# Altium schematic symbol library FullLib.SCHLIB: 38 symbols
Pins are listed as number, name and electrical type; pins without a type are passive.

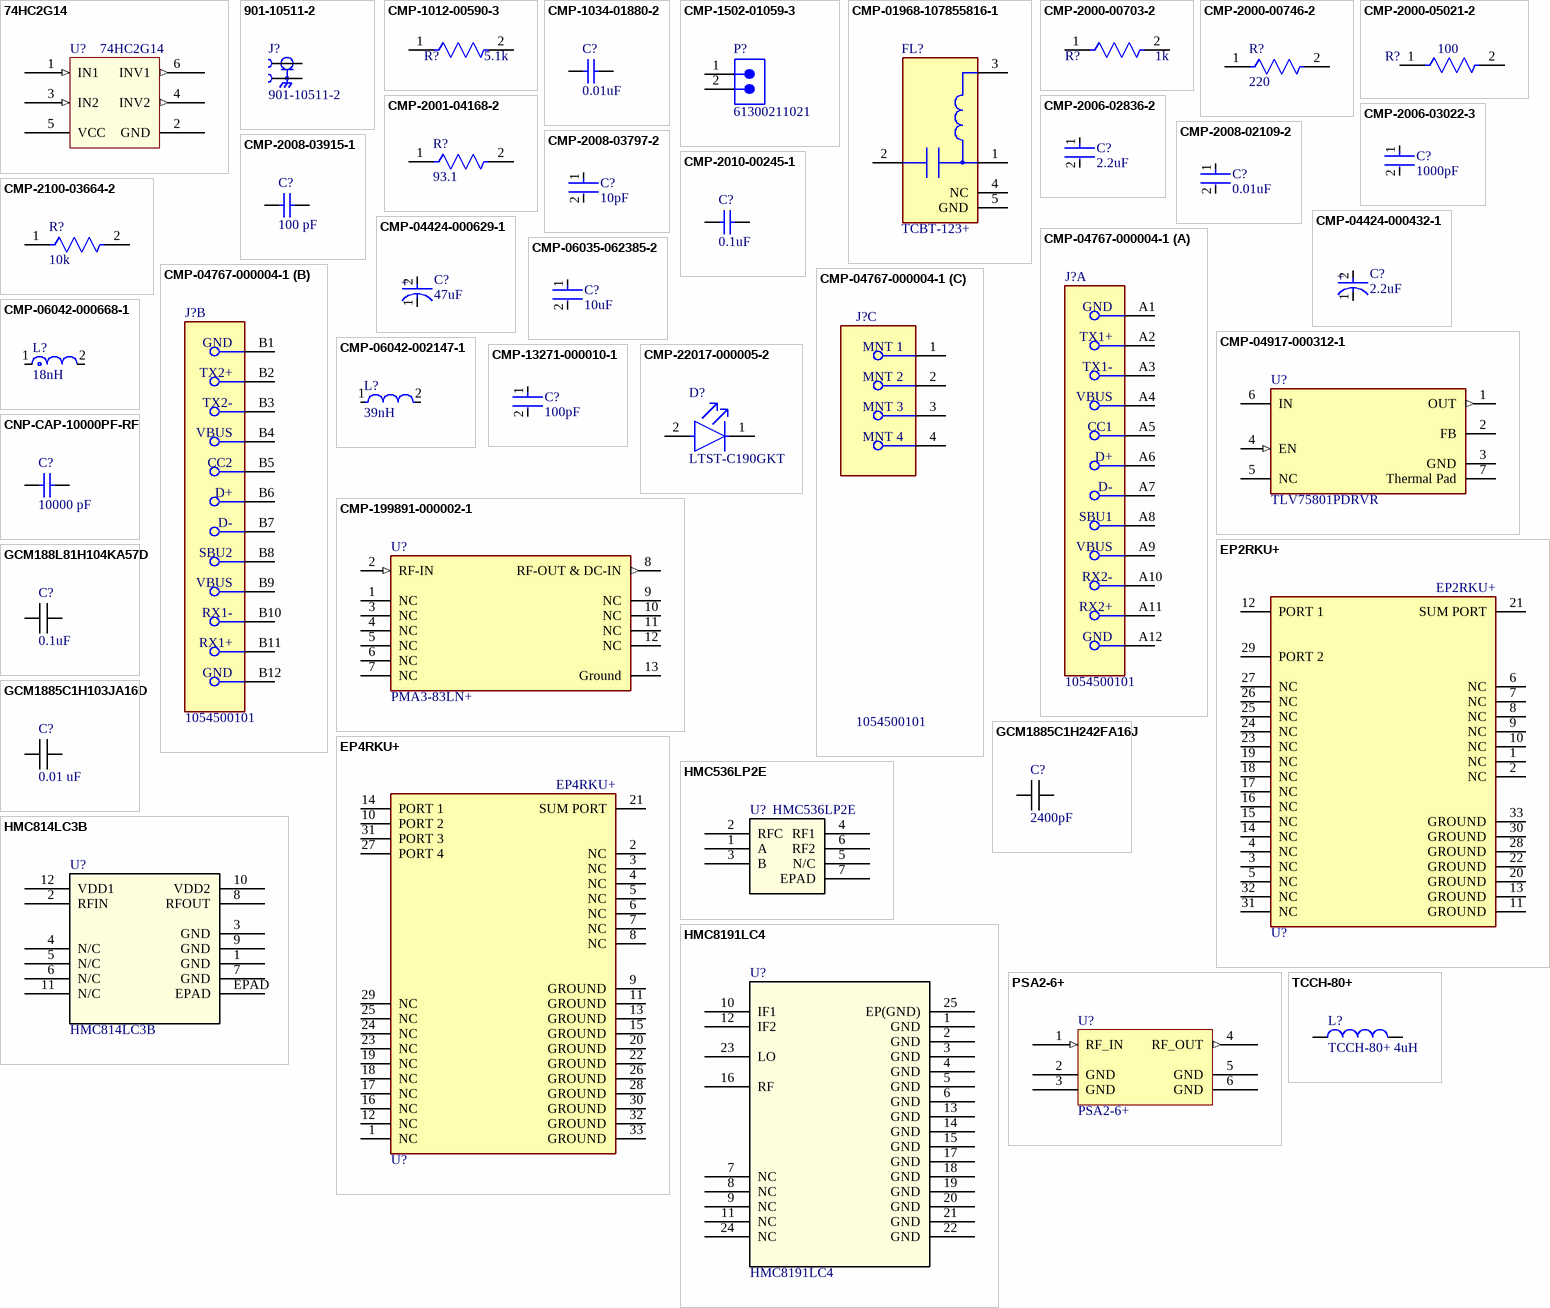
[diagram p0: symbols 74HC2G14 to TCCH-80+]

## 74HC2G14
designator U?
Inverters Dual inverting Schmitt trigger, 2CH; Part Number: 74HC2G14GV; Manufacturer: Nexperia; Supplier 1: Digikey; Supplier Part Number 1: 1727-74HC2G14GV-Q100HCT-ND
footprint TSOP-6
pins: 1 IN1 (in), 2 GND, 3 IN2 (in), 4 INV2 (out), 5 VCC (power), 6 INV1 (out)

## 901-10511-2
designator J?
SMA Straight End Launch Jack, .010 Pin, .068  PCB, Edge-Mount, High Frequency | Amphenol RF 901-10511-2; Manufacturer: Amphenol RF; Part Number: 901-10511-2; Supplier 1: Avnet; Supplier Part Number 1: 99Y7069
footprint AMPHENOL_901-10511-2
pins: 1, G1 2, G2 2

## CMP-1012-00590-3
designator R?, comment 5.1k
RES Thick Film, 5.1kΩ, 1%, 0.1W, 100ppm/°C, 0603; Part Number: ERJ-3EKF5101V; Manufacturer: Panasonic; Power Rating: 100mW; Voltage Rating (DC): 75V; Resistance: 5.1kR; Width: 0.85mm; Depth: 0.85mm; Military Standard: Not; Package Quantity: 5000; Case Code (Metric): 1608; Length: 1.55mm; Weight: 7.1E-05oz; Packaging: Tape and Reel; Temperature Coefficient: 100ppm/°C; Case Code (Imperial): 0603; Lead Free: Lead Free; Radiation Hardening: No; Contact Plating: Tin; Composition: Thick Film; Max Operating Temperature: 155°C; Termination: SMD/SMT; Case/Package: 0603; Min Operating Temperature: -55°C; Tolerance: 1%; Voltage Rating: 75V; Mount: Surface Mount; Height: 0.45mm; Supplier 1: Mouser; Supplier Part Number 1: 667-ERJ-3EKF5101V
footprint FP-CRCW0603-e3-IPC_C
footprint FP-CRCW0603-e3-MFG
footprint FP-CRCW0603-e3-IPC_A
footprint FP-CRCW0603-e3-IPC_B
pins: 1, 2

## CMP-1034-01880-2
designator C?, comment 0.01uF
10000 pF ±10% 25V Ceramic Capacitor X7R 0402 (1005 Metric); Manufacturer: Murata; Part Number: GRM155R71E103KA01D; Supplier 1: Mouser; Supplier Part Number 1: 81-GRM36X103K25; Supplier 2: Digikey; Supplier Part Number 2: 490-1312-1-ND
footprint CAPC1005X55X25LL05T10 (Chip Capacitor, 2-Leads, Body 1.00x0.50mm, IPC High Density)
footprint CAPC1005X55X25NL05T10 (Chip Capacitor, 2-Leads, Body 1.00x0.50mm, IPC Medium Density)
footprint CAPC1005X55X25ML05T10 (Chip Capacitor, 2-Leads, Body 1.00x0.50mm, IPC Low Density)
pins: 1, 2
1 alternate drawing of the same symbol

## CMP-1502-01059-3
designator P?, comment 61300211021
CONN HEADER R/A 2POS 2.54MM; NexarPartId: 32855519; Manufacturer: Wurth; Gender: Male; Contact Resistance: 20mΩ; Operating Supply Voltage: 250V; Connector Type: Male Pin; Current Rating: 3A; Number of Contacts: 2; Termination: Solder; Number of Pins: 2; Number of Rows: 1; Contact Plating: Gold; Contact Material: Copper; REACH SVHC: Unknown; Mount: Through Hole; RoHS: Compliant; Color: Black; Packaging: Bulk; Pitch: 2.54mm; Contact Mating Length: 5.9944mm; Number of Positions: 2; Lead Pitch: 2.54mm; Part Number: 61300211021; Supplier 1: Digikey; Supplier Part Number 1: 732-5335-ND
footprint 61300211021 (THT Angled Pin Header WR-PHD, Pitch 2.54 mm, Single Row, 2 pins)
pins: 1, 2

## CMP-01968-107855816-1
designator FL?, comment TCBT-123+
TCBT-123+ OEMs, CMs ONLY (NO BROKERS), / BIAS TEE SMT, 10 MHZ - 12 GHZ, 5; Manufacturer: Mini-Circuits; Min Operating Temperature: -40°C; Height: 3.81mm; Max Operating Temperature: 85°C; Part Number: TCBT-123+
footprint FP-GU1414-MFG (OEMs, CMs ONLY (NO BROKERS))
pins: 1 RF&DC, 2 RF, 3 DC, 4 NC, 5 GND (power)

## CMP-2000-00703-2
designator R?, comment 1k
RES SMD 1K OHM 5% 1/10W 0603; Manufacturer: Panasonic; Manufacturer Part Number: ERJ-3GEYJ102V; Resistance: 1000Ω; Voltage: 75 V; Power Rating: 0.1W; Temperature Coefficient: 200ppm/°C; Voltage Rating: 75V; Value: 1000Ω; Automotive Grade: Grade 0; Category: Res; Ipc Land Pattern Name: RESC16080X45; Mounting Type: surface mount; Automotive: Yes; Temperature: -55°C to +155°C; Lead Free: Yes; Footprint Url: https://industrial.panasonic.com/cdbs/www-data/pdf/RDA0000/DMA0000COL17.pdf; Tolerance: 5%; Device Class L1: Passive Components; Height: 0.55mm; Temperature Range Low: -55°C; RoHS: TRUE; Package: ERJ3G; Temperature Range High: +155°C; Digikey Description: RES SMD 1K OHM 5% 1/10W 0603; Series: ERJ; Device Class L2: Resistors; Device Class L3: Chip SMD Resistors; Mouser Description: Res Thick Film 0603 1K Ohm 5% 1/10W ±200ppm/°C Molded SMD Punched Carrier T/R; Composition: Thick Film; Part Number: ERJ-3GEYJ102V; Supplier 1: Future Electronics; Supplier Part Number 1: 6028511
footprint FP-ERJ3G-MFG
footprint FP-ERJ3G-IPC_C
footprint FP-ERJ3G-IPC_B
footprint FP-ERJ3G-IPC_A
pins: 1, 2

## CMP-2000-00746-2
designator R?, comment 220
RES SMD 220 OHM 5% 1/10W 0603; Manufacturer: Panasonic; Part Number: ERJ-3GEYJ221V; Max Power Dissipation: 100mW; Voltage Rating (DC): 50V; Temperature Coefficient: 200ppm/°C; Voltage Rating: 75V; Resistance: 220R; Height: 0.45mm; Case Code (Metric): 1608; Mount: Surface Mount; Military Standard: Not; Contact Plating: Tin; Radiation Hardening: No; Technology: THICK FILM; Case Code (Imperial): 0603; Features: Automotive AEC-Q200; Tolerance: 5%; Lead Free: Lead Free; Width: 0.031inch; Weight: 7.1E-05oz; Max Operating Temperature: 155°C; Case/Package: 0603; Series: ERJ; Package Quantity: 1; Number of Terminations: 2; Construction: Rectangular; Packaging: Tape and Reel; REACH SVHC: No SVHC; Min Operating Temperature: -55°C; Resistor Type: Thick Film; Length: 1.6mm; Power Rating: 100mW; Depth: 0.8mm; Resistance Tolerance: 5%; Termination: SMD/SMT; RoHS Compliant: Yes; Supplier 1: Future Electronics; Supplier Part Number 1: 4042422
footprint FP-ERJ3G-MFG
footprint FP-ERJ3G-IPC_B
footprint FP-ERJ3G-IPC_C
footprint FP-ERJ3G-IPC_A
pins: 1, 2

## CMP-2000-05021-2
designator R?, comment 100
RES SMD 100 OHM 5% 1/10W 0603; Manufacturer: Panasonic; Part Number: ERJ-3GEYJ101V; Temperature Coefficient: 100ppm/°C; Voltage Rating (DC): 50V; Power Rating: 100mW; Resistance: 100R; Features: Moisture Resistant; Width: 0.8mm; RoHS Compliant: Yes; Series: RC; Case Code (Metric): 1608; Packaging: Tape and Reel; Construction: Rectangular; Contact Plating: Tin; Resistor Type: Thick Film; Case/Package: 0603; Military Standard: Not; Case Code (Imperial): 0603; Number of Pins: 2; Length: 1.6mm; Size Code: 0603; Voltage Rating: 50V; Min Operating Temperature: -55°C; Max Power Dissipation: 100mW; Tolerance: 5%; Lead Free: Lead Free; Termination: SMD/SMT; Resistance Tolerance: 5%; Depth: 0.8mm; Max Operating Temperature: 155°C; Number of Terminations: 2; Radiation Hardening: No; Supplier 1: Mouser; Supplier Part Number 1: 667-ERJ-3GEYJ101V
footprint FP-RC0603-0_55-IPC_A
footprint FP-RC0603-0_55-IPC_B
footprint FP-RC0603-0_55-IPC_C
footprint FP-RC0603-0_55-MFG
pins: 1, 2

## CMP-2001-04168-2
designator R?, comment 93.1
RES Thick Film, 93.1Ω, 1%, 0.125W, 100ppm/°C, 0805; Part Number: ERJ-6ENF93R1V; Manufacturer: Panasonic; Resistance: 93.1R; Voltage Rating: 150V; Power Rating: 125mW; Tolerance: 1%; Features: Automotive AEC-Q200; Number of Terminations: 2; Case Code (Metric): 2012; Mount: Surface Mount; Case Code (Imperial): 0805; Temperature Coefficient: 100ppm/°C; Composition: Thick Film; Depth: 1.25mm; Case/Package: 0805; Width: 1.25mm; Voltage Rating (DC): 150V; Height: 0.02inch; Radiation Hardening: No; Contact Plating: Tin; Min Operating Temperature: -55°C; Max Power Dissipation: 125mW; Supplier 1: Digikey; Supplier Part Number 1: P93.1CCT-ND
footprint FP-CRCW0805-e3-MFG
footprint FP-CRCW0805-e3-IPC_C
footprint FP-CRCW0805-e3-IPC_A
footprint FP-CRCW0805-e3-IPC_B
pins: 1, 2

## CMP-2006-02836-2
designator C?, comment 2.2uF
Chip Multilayer Ceramic Capacitors for General Purpose, 0603, 2.2uF, X7R, 15%, 10%, 10V; Manufacturer: Murata; Part Number: GRM188R71A225KE15D; Case Code (Metric): 1608; Height: 0.8mm; Packaging: Cut Tape; Voltage: 10V; Lead Free: Lead Free; Min Operating Temperature: -55°C; Voltage Rating (DC): 10V; Max Operating Temperature: 125°C; Voltage Rating: 10V; Dielectric: X7R; Depth: 0.8mm; Case Code (Imperial): 0603; Termination: SMD/SMT; Case/Package: 0603; Number of Pins: 2; REACH SVHC: No SVHC; Mount: Surface Mount; Width: 0.031inch; Material: Ceramic; Capacitance: 2.2uF; Package Quantity: 1; Weight: 7.1E-05oz; Length: 1.6mm; Thickness: 0.035inch; Tolerance: 10%; Supplier 1: Arrow Electronics; Supplier Part Number 1: GRM188R71A225KE15D
footprint FP-GRM188-0_1-e0_2_0_5-MFG
footprint FP-GRM188-0_1-e0_2_0_5-IPC_B
footprint FP-GRM188-0_1-e0_2_0_5-IPC_A
footprint FP-GRM188-0_1-e0_2_0_5-IPC_C
pins: 1, 2

## CMP-2006-03022-3
designator C?, comment 1000pF
CAP CER 1000PF 50V C0G/NP0 0603; Manufacturer: Murata; Part Number: GRM1885C1H102JA01D; Value: 1,000 pF; Material: Ceramic; ComponentLink2URL: https://api.kemet.com/component-edge/download/datasheet/C0603C100J5GACAUTO.pdf; Capacitance: 1,000 pF; Temperature Range High: +125°C; Voltage Rating: 50 V; Mouser Description: Capacitor; Ceramic; Cap; 1000pF; Tol 10%; SMT; Vol-Rtg 50V; X7R; Tape and Reel; Category: Cap; ComponentLink2Description: Datasheet; Supplier 1: Arrow Electronics; Supplier Part Number 1: GRM1885C1H102JA01D
footprint FP-C0603C-CF-MFG
footprint FP-C0603C-CF-IPC_C
footprint FP-C0603C-CF-IPC_B
footprint FP-C0603C-CF-IPC_A
pins: 1, 2

## CMP-2008-02109-2
designator C?, comment 0.01uF
CAP CER 10000PF 50V X7R 0402; Manufacturer: Murata; Manufacturer Part Number: GCM155R71H103KA55D; Tolerance: 0.1; Value: 10,000 pF; Material: Ceramic; Height: 0.55mm; Temperature Range Low: -55°C; ComponentLink2URL: https://content.kemet.com/datasheets/KEM_C1002_X7R_SMD.pdf; Temperature Characteristic: X7R; Automotive: No; Device Class L2: Capacitors; ComponentLink2Description: Datasheet; Voltage Rating: 50 V; Capacitance: 10,000 pF; Temperature: -55°C to +125°C; Part Number: GCM155R71H103KA55D; Supplier 1: Arrow Electronics; Supplier Part Number 1: GCM155R71H103KA55D
footprint FP-C0402-BB-MFG
footprint FP-C0402-BB-IPC_C
footprint FP-C0402-BB-IPC_B
footprint FP-C0402-BB-IPC_A
pins: 1, 2

## CMP-2008-03797-2
designator C?, comment 10pF
Multi-Layer Ceramic Capacitor 10pF C0G  ±5% 0402 Paper T/R; Manufacturer: Murata; Part Number: GJM1555C1H100JB01D; Voltage Rating (DC): 50V; Mount: Surface Mount; Width: 0.02inch; Height: 0.5mm; Termination: SMD/SMT; Capacitance: 10pF; Packaging: Tape and Reel; Case Code (Metric): 1005; Depth: 0.5mm; Min Operating Temperature: -55°C; Case/Package: 0402; Voltage Rating: 50V; Tolerance: 5%; Lead Free: Lead Free; Package Quantity: 1; Case Code (Imperial): 0402; Radiation Hardening: No; Length: 1mm; Voltage: 50V; Dielectric: C0G; Thickness: 0.022inch; Max Operating Temperature: 125°C; Supplier 1: Arrow Electronics; Supplier Part Number 1: GJM1555C1H100JB01D
footprint FP-GJM155-0_05-IPC_A
footprint FP-GJM155-0_05-IPC_C
footprint FP-GJM155-0_05-IPC_B
footprint FP-GJM155-0_05-MFG
pins: 1, 2

## CMP-2008-03915-1
designator C?, comment 100 pF
CAP CER 100PF 25V C0G/NP0 0402, RF Series; Manufacturer: KEMET; Part Number: CBR04C101F3GAC; Supplier 1: Digikey; Supplier Part Number 1: 399-11246-1-ND
footprint CAPC1005X55X25ML05T10 (Chip Capacitor, 2-Leads, Body 1.00x0.50mm, IPC Low Density)
footprint CAPC1005X55X25NL05T10 (Chip Capacitor, 2-Leads, Body 1.00x0.50mm, IPC Medium Density)
footprint CAPC1005X55X25LL05T10 (Chip Capacitor, 2-Leads, Body 1.00x0.50mm, IPC High Density)
pins: 1, 2
1 alternate drawing of the same symbol

## CMP-2010-00245-1
designator C?, comment 0.1uF
CAP CER 0.1UF 16V X5R 0201, Broadband / Multilayer Capacitor; Manufacturer: KYOCERA AVX; Part Number: 531Z104KT16T; Supplier 1: Mouser; Supplier Part Number 1: 581-531Z104KT16T
footprint CAPC0603X33X15LL03T05 (Chip Capacitor, 2-Leads, Body 0.60x0.30mm, IPC High Density)
footprint CAPC0603X33X15ML03T05 (Chip Capacitor, 2-Leads, Body 0.60x0.30mm, IPC Low Density)
footprint CAPC0603X33X15NL03T05 (Chip Capacitor, 2-Leads, Body 0.60x0.30mm, IPC Medium Density)
pins: 1, 2
1 alternate drawing of the same symbol

## CMP-2100-03664-2
designator R?, comment 10k
RES 10K OHM 1% 1/10W 0603; Part Number: ERJ-S03F1002V; Manufacturer: Panasonic; Voltage Rating: 75V; Voltage Rating (DC): 50V; Resistance: 10kR; Power Rating: 100mW; Temperature Coefficient: 100ppm/°C; Depth: 0.8mm; Termination: SMD/SMT; Resistor Type: Thick Film; Series: RC; Construction: Rectangular; Features: Moisture Resistant; Packaging: Tape and Reel; Min Operating Temperature: -55°C; Number of Terminations: 2; Lead Pitch: 0.3mm; RoHS Compliant: Yes; Case/Package: 0603; Resistance Tolerance: 1%; Military Standard: Not; Weight: 7.1E-05oz; Number of Pins: 2; Tolerance: 1%; Length: 1.6mm; Case Code (Imperial): 0603; Lead Free: Lead Free; Width: 0.8mm; Max Power Dissipation: 100mW; Height: 0.45mm; Max Operating Temperature: 155°C; Case Code (Metric): 1608; Size Code: 0603; Supplier 1: Mouser; Supplier Part Number 1: 667-ERJ-S03F1002V
footprint FP-RC0603-0_55-IPC_C
footprint FP-RC0603-0_55-IPC_B
footprint FP-RC0603-0_55-MFG
footprint FP-RC0603-0_55-IPC_A
pins: 1, 2

## CMP-04424-000432-1
designator C?, comment 2.2uF
2.2uF 16V  ±10% 6.5Ω 1206  SMD Tantalum Capacitor; Manufacturer: KYOCERA AVX; Part Number: TAJA225K016RNJ; Polarity: Polar; Leakage Current: 500nA; Dissipation Factor: 6%; ESR (Equivalent Series Resistance): 6.5R; Q Factor: 6; Series: TAJ; Number of Pins: 2; Termination: SMD/SMT; Construction: Flat; Min Operating Temperature: -55°C; Capacitance: 2.2uF; Voltage Rating: 16V; Dielectric Material: Tantalum; Radiation Hardening: No; Package Quantity: 1; Depth: 1.6mm; Features: General Purpose; Max Operating Temperature: 125°C; Height: 1.6mm; Height - Seated (Max): 0.071inch; Tolerance: 10%; Voltage Rating (DC): 16V; Width: 1.6mm; Mount: Surface Mount; Packaging: Tape and Reel; Lead Free: Lead Free; RoHS Compliant: Yes; Length: 3.2mm; Case/Package: 1206; REACH SVHC: No SVHC; Case Code (Metric): 3216; Case Code (Imperial): 1206; Voltage: 16V; Supplier 1: Future Electronics; Supplier Part Number 1: 1352210
footprint FP-TAJA-MFG
pins: 1 C, 2 A
text: +

## CMP-04424-000629-1
designator C?, comment 47uF
47uF 10V  ±10% 1Ω 1210  SMD Tantalum Capacitor; Part Number: TAJB476K010RNJ; Manufacturer: KYOCERA AVX; Leakage Current: 4.7uA; ESR (Equivalent Series Resistance): 1R; Dissipation Factor: 8%; Polarity: Polar; Package Quantity: 1; Length: 3.5mm; Dielectric Material: Tantalum; Series: TAJ; Termination: SMD/SMT; Case Code (Metric): 3528; Case Code (Imperial): 1210; Height - Seated (Max): 0.083inch; Lead Pitch: 1.4mm; Features: General Purpose; Radiation Hardening: No; Lead Free: Lead Free; Construction: Flat; RoHS Compliant: Yes; Case/Package: 1210; Min Operating Temperature: -55°C; Voltage: 10V; Depth: 2.8mm; Mount: Surface Mount; REACH SVHC: No SVHC; Width: 0.11inch; Voltage Rating (DC): 10V; Max Operating Temperature: 125°C; Capacitance: 47uF; Tolerance: 10%; Voltage Rating: 10V; Packaging: Tape and Reel; Number of Pins: 2; Height: 1.9mm; Supplier 1: Future Electronics; Supplier Part Number 1: 7241805
footprint FP-TAJB-MFG
pins: 1 C, 2 A
text: +

## CMP-04767-000004-1
designator J?, comment 1054500101
CONN RCP USB3.1 TYPEC 24P SMD RA; Manufacturer: Molex; Number Of Contacts: 24; Voltage Rating: 30V; Shielding: true; Is Female: yes; Current Rating: 0.25/1.25/5A; Pitch: 0.5mm; Conn Orientation: Right Angle; Package: 0; Height: 3.44mm; Footprint Url: https://www.molex.com/pdm_docs/sd/1054500101_sd.pdf; Device Class L1: Connectors; Category: Conn; Device Class L2: USB Connectors; Digikey Description: CONN RCP USB3.1 TYPEC 24P SMD RA; Contact Material: Gold,Nickel; Mouser Description: USB Shielded I/O Receptacle; Type C; Right Angle; Surface Mount; Gold over Nickel; ComponentLink2Description: Datasheet; Lead Free: Yes; Automotive: No; Temperature Range High: +85°C; RoHS: TRUE; ComponentLink2URL: https://www.molex.com/webdocs/datasheets/pdf/en-us/1054500101_IO_CONNECTORS.pdf; Temperature: -30°C to +85°C; Usb Standard: USB 3.1; Temperature Range Low: -30°C; Manufacturer Part Number: 1054500101; Part Number: 1054500101; Supplier 1: Arrow Electronics; Supplier Part Number 1: 105450-0101
footprint FP-1054500101-MFG
part A pins: A1 GND, A2 TX1+, A3 TX1-, A4 VBUS, A5 CC1, A6 D+, A7 D-, A8 SBU1, A9 VBUS, A10 RX2-, A11 RX2+, A12 GND
part B pins: B1 GND, B2 TX2+, B3 TX2-, B4 VBUS, B5 CC2, B6 D+, B7 D-, B8 SBU2, B9 VBUS, B10 RX1-, B11 RX1+, B12 GND
part C pins: 1 MNT 1, 2 MNT 2, 3 MNT 3, 4 MNT 4

## CMP-04917-000312-1
designator U?, comment TLV75801PDRVR
IC REG LIN POS ADJ 500MA 6WSON; Manufacturer: Texas Instruments; Part Number: TLV75801PDRVR; Supplier 1: Mouser; Supplier Part Number 1: 595-TLV75801PDRVR
footprint FP-DRV0006A-MFG
footprint FP-DRV0006A-IPC_A
footprint FP-DRV0006A-IPC_B
footprint FP-DRV0006A-IPC_C
pins: 1 OUT (out), 2 FB, 3 GND (power), 4 EN (in), 5 NC, 6 IN (power), 7 Thermal Pad (power)

## CMP-06035-062385-2
designator C?, comment 10uF
CAP CER 10UF 25V X5R 0603; Part Number: ZRB18AR61E106ME01L; Manufacturer: Murata; Tolerance: 20%; Min Operating Temperature: -55°C; Voltage: 25V; Case Code (Imperial): 0603; Case Code (Metric): 1608; Voltage Rating (DC): 25V; Max Operating Temperature: 85°C; Depth: 0.8mm; Thickness: 0.047inch; RoHS Compliant: Yes; Dielectric: X5R; Mount: Surface Mount; Voltage Rating: 25V; Length: 0.063inch; Height: 1mm; Packaging: Cut Tape; Capacitance: 10uF; REACH SVHC: No SVHC; Width: 0.031inch; Case/Package: 0603; Supplier 1: Arrow Electronics; Supplier Part Number 1: ZRB18AR61E106ME01L
footprint FP-ZRB18AR61E106ME01L-MFG
pins: 1, 2

## CMP-06042-000668-1
designator L?, comment 18nH
Multilayer type RF Inductor 18nH ±5% 0.36Ω 400mA 0402; Part Number: LQG15HS18NJ02D; Manufacturer: Murata; DC Current: 300mA; Test Frequency: 100MHz; Self Resonant Frequency: 2.2GHz; Shielding: Unshielded; Core Material: Air; DC Resistance (DCR): 360mR; Q Factor: 8; Inductance: 18nH; Military Standard: Not; REACH SVHC: No SVHC; Tolerance: 5%; Inductance Tolerance: 5%; Weight: 2.3E-05oz; Lead Free: Lead Free; Depth: 0.55mm; Current Rating: 300mA; Max DC Current: 300mA; Max Operating Temperature: 125°C; Length: 0.039inch; Min Operating Temperature: -55°C; Width: 0.5mm; Radiation Hardening: No; Termination: SMD/SMT; Height: 0.5mm; Package Quantity: 10000; Packaging: Tape and Reel; Case/Package: 0402; Case Code (Imperial): 0402; Mount: Surface Mount; Height - Seated (Max): 0.022inch; Case Code (Metric): 1005; Supplier 1: Arrow Electronics; Supplier Part Number 1: LQG15HS18NJ02D
footprint FP-LQG15HH_02-MFG
footprint FP-LQG15HH_02-IPC_A
footprint FP-LQG15HH_02-IPC_B
footprint FP-LQG15HH_02-IPC_C
pins: 1, 2

## CMP-06042-002147-1
designator L?, comment 39nH
Wire Wound RF Inductor 39nH ±2% 250mA 0.7Ω 0402 (1005); Part Number: LQW15AN39NG00D; Manufacturer: Murata; Core Material: Air; Shielding: Unshielded; Test Frequency: 100MHz; Self Resonant Frequency: 3GHz; DC Resistance (DCR): 700mR; Current: 750mA; Q Factor: 25; Lead Free: Lead Free; Case/Package: 0402; Packaging: Tape and Reel; Inductance: 39nH; Height: 0.5mm; Tolerance: 2%; Max Operating Temperature: 125°C; Max DC Current: 250mA; Case Code (Metric): 1005; REACH SVHC: No SVHC; Number of Pins: 2; Radiation Hardening: No; Military Standard: Not; Min Operating Temperature: -55°C; Termination: SMD/SMT; Inductance Tolerance: 2%; Mount: Surface Mount; Case Code (Imperial): 0402; Package Quantity: 1; DC Current: 250mA; Depth: 0.6mm; Weight: 2.8E-05oz; Width: 0.5mm; Current Rating: 250mA; Length: 1mm; Supplier 1: Arrow Electronics; Supplier Part Number 1: LQW15AN39NG00D
footprint FP-LQW15AN_00-W0_5-0_1-MFG
pins: 1, 2

## CMP-13271-000010-1
designator C?, comment 100pF
CAP CER 100PF 50V C0G/NP0 0402; Manufacturer: Murata; Part Number: GCM1555C1H101JA16D; Material: Ceramic; Temperature Coefficient: 30ppm/°C; Capacitance: 100pF; ComponentLink2URL: http://www.samsungsem.com/global/front/downloadcms.do?path=%2F%2Fglobal%2F%2Fsupport%2F%2Fproduct-search%2F%2Fmlcc%2F%2F__icsFiles%2F%2Fafieldfile%2F%2F2019%2F%2F06%2F%2F18&fileName=CL05C101JB5NNNC-19.pdf; Temperature: -55°C to +125°C; Device Class L2: Capacitors; Digikey Description: CAP CER 100PF 50V C0G/NP0 0402; Value: 100pF; Temperature Range High: +125°C; Temperature Range Low: -55°C; ComponentLink2Description: Datasheet; Device Class L3: Ceramic Capacitors; Height: 0.55mm; Voltage Rating: 50V; Category: Cap; Supplier 1: Digikey; Supplier Part Number 1: 1276-1025-1-ND
footprint FP-CL05-MFG
footprint FP-CL05-IPC_C
footprint FP-CL05-IPC_B
footprint FP-CL05-IPC_A
pins: 1, 2

## CMP-22017-000005-2
designator D?, comment LTST-C190GKT
LED GREEN CLEAR CHIP SMD; Manufacturer: Lite-On; Dominant Wavelength: 569nm; Reverse Voltage: 5V; Lens Color: Colorless; Viewing Angle: 130°; Voltage: 2V; Forward Current: 30mA; Power Dissipation: 100mW; Luminous Intensity: 6mcd; Number of LEDs: 1; Forward Voltage: 2.1V; Wavelength: 565nm; Test Current: 10mA; Min Operating Temperature: -55°C; Lens Style: Clear; Mount: Surface Mount; Width: 0.8mm; Packaging: Tape and Reel; Lens Transparency: Clear; Case Code (Metric): 1608; Depth: 0.8mm; Case Code (Imperial): 0603; Case/Package: 0603; Number of Pins: 2; Max Operating Temperature: 85°C; Lead Free: Lead Free; Number of Elements: 1; Length: 1.6mm; Height: 0.8mm; Package Quantity: 1; Power Rating: 100mW; Radiation Hardening: No; Illumination Color: Green; Color: Green; Part Number: LTST-C190GKT; Supplier 1: Digikey; Supplier Part Number 1: 160-1183-1-ND
footprint FP-LTST-C190GKT-MFG
pins: 1 C, 2 A

## CMP-199891-000002-1
designator U?, comment PMA3-83LN+
SMT LOW NOISE AMPLIFIER, 500 - 8; Manufacturer: Mini-Circuits; Part Number: PMA3-83LN+; Supplier 1: Digikey; Supplier Part Number 1: 3157-PMA3-83LN+CT-ND
footprint FP-DQ1225-MFG
footprint FP-DQ1225-IPC_C
footprint FP-DQ1225-IPC_B
footprint FP-DQ1225-IPC_A
pins: 1 NC, 2 RF-IN (in), 3 NC, 4 NC, 5 NC, 6 NC, 7 NC, 8 RF-OUT & DC-IN (out), 9 NC, 10 NC, 11 NC, 12 NC, 13 Ground (power)

## CNP-CAP-10000PF-RF
designator C?, comment 10000 pF
CAP CER 10000PF 16V X7R 0402, RF Series; Manufacturer: KYOCERA AVX; Part Number: 520L103KT16T; Supplier 1: Mouser; Supplier Part Number 1: 81-RDER72H473K2K1H3B
footprint CAPC1005X55X25ML05T10 (Chip Capacitor, 2-Leads, Body 1.00x0.50mm, IPC Low Density)
footprint CAPC1005X55X25NL05T10 (Chip Capacitor, 2-Leads, Body 1.00x0.50mm, IPC Medium Density)
footprint CAPC1005X55X25LL05T10 (Chip Capacitor, 2-Leads, Body 1.00x0.50mm, IPC High Density)
pins: 1, 2
1 alternate drawing of the same symbol

## EP2RKU+
designator U?
2 Ways MMIC Power Splitter, DC - 18000 MHz, 50Ω; Manufacturer: Mini-Circuits; Part Number: EP2RKU+; Supplier 1: Digikey; Supplier Part Number 1: 3157-EP2RKU+CT-ND
footprint EP2RKU+ (2 Ways MMIC Power Splitter, DC - 18000 MHz, 50?)
pins: 1 NC, 2 NC, 3 NC, 4 NC, 5 NC, 6 NC, 7 NC, 8 NC, 9 NC, 10 NC, 11 GROUND (power), 12 PORT 1, 13 GROUND (power), 14 NC, 15 NC, 16 NC, 17 NC, 18 NC, 19 NC, 20 GROUND (power), 21 SUM PORT, 22 GROUND (power), 23 NC, 24 NC, 25 NC, 26 NC, 27 NC, 28 GROUND, 29 PORT 2, 30 GROUND (power), 31 NC, 32 NC, 33 GROUND (power)

## EP4RKU+
designator U?
Power Splitter/Combiner 4 Way-0° 50Ω DC to 18 GHz; Manufacturer: Mini-Circuits; Part Number: EP4RKU+; Supplier 1: Digikey; Supplier Part Number 1: 3157-EP4RKU+CT-ND
footprint EP4RKU+ (DG1677-2)
pins: 1 NC, 2 NC, 3 NC, 4 NC, 5 NC, 6 NC, 7 NC, 8 NC, 9 GROUND (power), 10 PORT 2, 11 GROUND (power), 12 NC, 13 GROUND (power), 14 PORT 1, 15 GROUND (power), 16 NC, 17 NC, 18 NC, 19 NC, 20 GROUND (power), 21 SUM PORT, 22 GROUND (power), 23 NC, 24 NC, 25 NC, 26 GROUND (power), 27 PORT 4, 28 GROUND (power), 29 NC, 30 GROUND (power), 31 PORT 3, 32 GROUND (power), 33 GROUND (power)

## GCM188L81H104KA57D
designator C?, comment 0.1uF
SMD Capacitor X8L(MURATA) with Capacitance: 0.10uF Tol. 10%. Rated Voltage: 50Vdc; Part Number: GCM188L81H104KA57D; Supplier 1: Mouser; Supplier Part Number 1: 81-GCM188L81H104KA7D; Manufacturer: Murata
footprint CAPC1608X90N
pins: 1, 2

## GCM1885C1H103JA16D
designator C?, comment 0.01 uF
SMD Capacitor C0G(EIA) with Capacitance: 10000pF Tol. 5%. Rated Voltage: 50Vdc; Part Number: GCM1885C1H103JA16D; Manufacturer: Murata; Supplier 1: Mouser; Supplier Part Number 1: 81-GCM1885C1H103JA6D
footprint CAP0603_10000pF
pins: 1, 2

## GCM1885C1H242FA16J
designator C?, comment 2400pF
CAP CER 2400PF 50V C0G/NP0 0603; Part Number: GCM1885C1H242FA16J; Manufacturer: Murata; Supplier 1: Mouser; Supplier Part Number 1: 81-GCM1885C1H242FA6J
footprint CAPC1608X90N
pins: 1, 2

## HMC536LP2E
designator U?
IC RF SWITCH SPDT 6GHZ 6DFN; Manufacturer: Analog Devices; Part Number: HMC536LP2E; Supplier 1: Mouser; Supplier Part Number 1: 584-HMC536LP2E
footprint HMC536LP2E
pins: 1 A, 2 RFC, 3 B, 4 RF1, 5 N/C, 6 RF2, 7 EPAD

## HMC814LC3B
designator U?
SMT GaAs MMIC x2 ACTIVE FREQUENCY / MULTIPLIER, 13 - 24.6 GHz OUTPUT; Manufacturer: Analog Devices; RefDes: RefDes; Supplier 1: Mouser; Supplier Part Number 1: 584-HMC814LC3B; Part Number: HMC814LC3B
footprint HCP_12_1 (HMC814LC3B QFN12); pin to pad EPAD>13
pins: 1 GND, 2 RFIN, 3 GND, 4 N/C, 5 N/C, 6 N/C, 7 GND, 8 RFOUT, 9 GND, 10 VDD2, 11 N/C, 12 VDD1, EPAD

## HMC8191LC4
designator U?
6 GHz to 26.5 GHz, / Wideband I/Q Mixer; Manufacturer: Analog Devices; RefDes: RefDes; Supplier 1: Mouser; Supplier Part Number 1: 584-HMC8191LC4; Part Number: HMC8191LC4
footprint HMC8191_E-24-1
pins: 1 GND, 2 GND, 3 GND, 4 GND, 5 GND, 6 GND, 7 NC, 8 NC, 9 NC, 10 IF1, 11 NC, 12 IF2, 13 GND, 14 GND, 15 GND, 16 RF, 17 GND, 18 GND, 19 GND, 20 GND, 21 GND, 22 GND, 23 LO, 24 NC, 25 EP(GND)

## PSA2-6+
designator U?
SMT MMIC, Linear, Gain Block Amplifier, DC to 7000 MHz, 50Ω, SOT-363 Style Package; Manufacturer: Mini-Circuits; Supplier 1: Mouser; Supplier Part Number 1: 139-PSA2-6+; Part Number: PSA2-6+
footprint PSA2-6+ SOT-363 (SMT MMIC, Linear, Gain Block Amplifier, DC to 7000 MHz, 50Ω, SOT-363 Style Package)
pins: 1 RF_IN (in), 2 GND, 3 GND, 4 RF_OUT (out), 5 GND, 6 GND

## TCCH-80+
designator L?, comment TCCH-80+ 4uH
SMT RF Choke 50 MHz - 8.2 GHz, 50Ω; Manufacturer: Mini-Circuits; Part Number: TCCH-80+; Supplier 1: Digikey; Supplier Part Number 1: 3157-TCCH-80+CT-ND
footprint TCCH-80+ (GU1604 Case)
pins: 1, 3